# EAGLE library part APA102_GCCHEADER (library GoomWave)
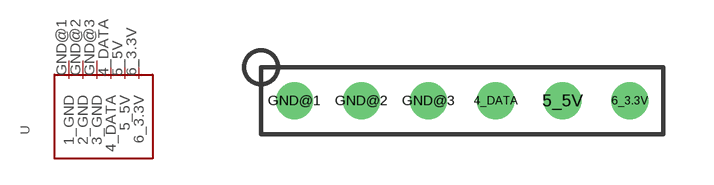
[diagram p1: symbol with the pads of APA102_GCC; footprint APA102_GCC]

Designator prefix -

## APA102_GCCHEADER  [APA102_GCC]
4_DATA  4_DATA
5_5V  5_5V
6_3.3V  6_3.3V
GND@1  1_GND
GND@2  2_GND
GND@3  3_GND

## Footprint APA102_GCC (pad centres in mm)
drill 0.6: 4_DATA 1,0; 5_5V 3,0; 6_3.3V 5,0; GND@1 -5,0; GND@2 -3,0; GND@3 -1,0